# Altium footprint library TSOP65P640X120-16_sajat.PcbLib: 2 footprints
Each footprint in its own frame and in the unit in brackets; x right, y up, seen from the top. Pads: shape width x height; smd on the part's side, far side on the other; paste and mask are expansions set on the pad; w line width, h text height; cw(c..) or ccw(c..) is an arc to the next point about the centre after c.
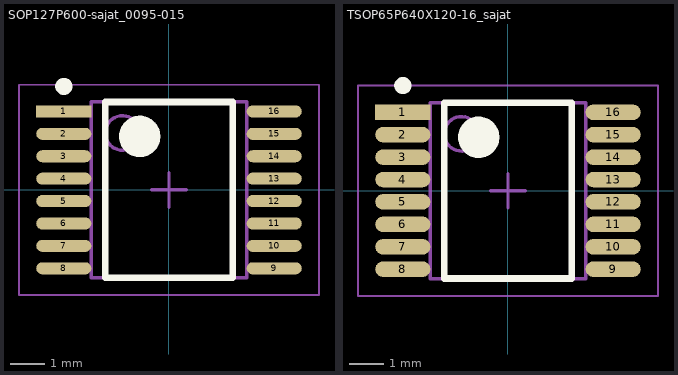
[diagram p0: the footprints below, top view; thin cyan lines are the x and y axes]

## SOP127P600-sajat_0095-015 [mm]
height 1.2
pads (16):
  rect 1.6x0.35 smd: 1(-3.05,2.275)
  oval 1.6x0.35 smd: 2(-3.05,1.625) 3(-3.05,0.975) 4(-3.05,0.325) 5(-3.05,-0.325) 6(-3.05,-0.975) 7(-3.05,-1.625) 8(-3.05,-2.275) 9(3.05,-2.275) 10(3.05,-1.625) 11(3.05,-0.975) 12(3.05,-0.325) 13(3.05,0.325) 14(3.05,0.975) 15(3.05,1.625) 16(3.05,2.275)
Top Overlay:
  circle w0.6: c-0.85,1.55 r0.3
  circle w0.25: c-3.05,3 r0.125
  lines w0.2: -1.85,-2.55 1.85,-2.55 1.85,2.55 -1.85,2.55 -1.85,-2.55
Mechanical 13:
  circle w0.1: c-1.35,1.65 r0.5
  lines w0.1: -2.25,-2.55 2.25,-2.55 2.25,2.55 -2.25,2.55 -2.25,-2.55
Mechanical 15:
  lines w0.05: -4.35,-3.05 4.35,-3.05 4.35,3.05 -4.35,3.05 -4.35,-3.05
  lines w0.1: -0.5,0 0.5,0 ; 0,-0.5 0,0.5
3D body: height 1.2, standoff 0.05, extent -2.25,-2.55 2.25,2.55

## TSOP65P640X120-16_sajat [mm] "TSOP, 16-Leads, Body 5,00x4,40mm, Pitch 0,65mm, IPC Low Density"
height 1.2
pads (16):
  rect 1.6x0.45 smd: 1(-3.05,2.275)
  oval 1.6x0.45 smd: 2(-3.05,1.625) 3(-3.05,0.975) 4(-3.05,0.325) 5(-3.05,-0.325) 6(-3.05,-0.975) 7(-3.05,-1.625) 8(-3.05,-2.275) 9(3.05,-2.275) 10(3.05,-1.625) 11(3.05,-0.975) 12(3.05,-0.325) 13(3.05,0.325) 14(3.05,0.975) 15(3.05,1.625) 16(3.05,2.275)
Top Overlay:
  circle w0.6: c-0.85,1.55 r0.3
  circle w0.25: c-3.05,3.05 r0.125
  lines w0.2: -1.85,-2.55 1.85,-2.55 1.85,2.55 -1.85,2.55 -1.85,-2.55
Mechanical 13:
  circle w0.1: c-1.35,1.65 r0.5
  lines w0.1: -2.25,-2.55 2.25,-2.55 2.25,2.55 -2.25,2.55 -2.25,-2.55
Mechanical 15:
  lines w0.05: -4.35,-3.05 4.35,-3.05 4.35,3.05 -4.35,3.05 -4.35,-3.05
  lines w0.1: -0.5,0 0.5,0 ; 0,-0.5 0,0.5
3D body: height 1.2, standoff 0.05, extent -2.25,-2.55 2.25,2.55